# EAGLE library part LTC4151IMSTRPBF (library LTC4151IMS)
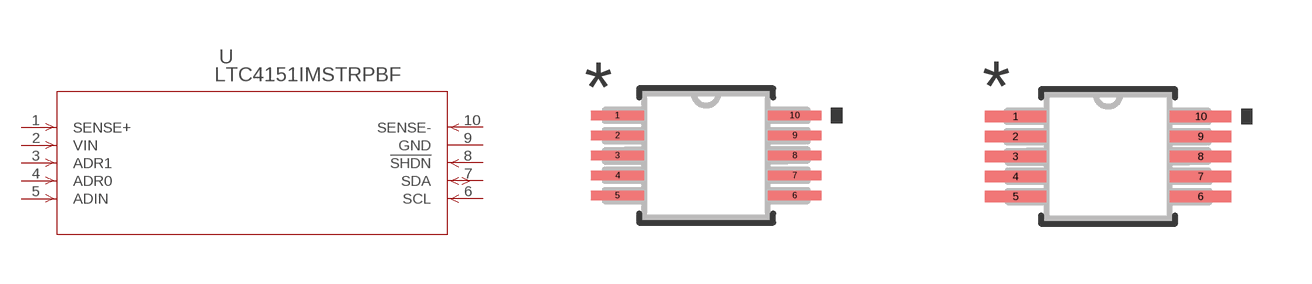
[diagram p0: symbol with the pads of MSOP-10_MS_LIT; footprints MSOP-10_MS_LIT, MSOP-10_MS_LIT-M]

Designator prefix U

## LTC4151IMSTRPBF (BUILT_BY: EMA_UL_Team; MANUFACTURER_PART_NUMBER: ltc4151ims#trpbf; SOURCELIBRARY: LinearTech_2009-6-25; VENDOR: Linear Technology)  [MSOP-10_MS_LIT]
1  SENSE+  in
2  VIN  in
3  ADR1  in
4  ADR0  in
5  ADIN  in
6  SCL  in
7  SDA
8  !SHDN  in
9  GND  pwr
10  SENSE-  in

## LTC4151IMSTRPBFMSOP-10_MS_LIT-M (BUILT_BY: EMA_UL_Team; MANUFACTURER_PART_NUMBER: ltc4151ims#trpbf; SOURCELIBRARY: LinearTech_2009-6-25; VENDOR: Linear Technology)  [MSOP-10_MS_LIT-M]
Pads as for MSOP-10_MS_LIT

## LTC4151IMSTRPBFMSOP-10_MS_LIT-L (BUILT_BY: EMA_UL_Team; MANUFACTURER_PART_NUMBER: ltc4151ims#trpbf; SOURCELIBRARY: LinearTech_2009-6-25; VENDOR: Linear Technology)  [MSOP-10_MS_LIT-L]
Pads as for MSOP-10_MS_LIT

## Footprint MSOP-10_MS_LIT (pad centres in mm)
smd 1.333 x 0.229: 1 -2.216,1.001; 2 -2.216,0.5; 3 -2.216,0; 4 -2.216,-0.5; 5 -2.216,-1.001; 6 2.216,-1.001; 7 2.216,-0.5; 8 2.216,0; 9 2.216,0.5; 10 2.216,1.001

## Footprint MSOP-10_MS_LIT-M (pad centres in mm)
smd 1.537 x 0.279: 1 -2.318,1.001; 2 -2.318,0.5; 3 -2.318,0; 4 -2.318,-0.5; 5 -2.318,-1.001; 6 2.318,-1.001; 7 2.318,-0.5; 8 2.318,0; 9 2.318,0.5; 10 2.318,1.001

## Footprint MSOP-10_MS_LIT-L (pad centres in mm)
smd 1.092 x 0.178: 1 -2.134,1.001; 2 -2.134,0.5; 3 -2.134,0; 4 -2.134,-0.5; 5 -2.134,-1.001; 6 2.134,-1.001; 7 2.134,-0.5; 8 2.134,0; 9 2.134,0.5; 10 2.134,1.001